# Altium schematic symbol library ChipAntenna.SchLib: 1 symbol
Pins are listed as number, name and electrical type; pins without a type are passive.

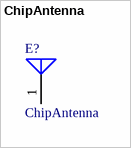
[diagram p0: symbol ChipAntenna]

## ChipAntenna
designator E?
Generic Antenna
pins: 1 A